# Altium integrated library Lattice iCE40.IntLib: 53 symbols (part 2 of 5)
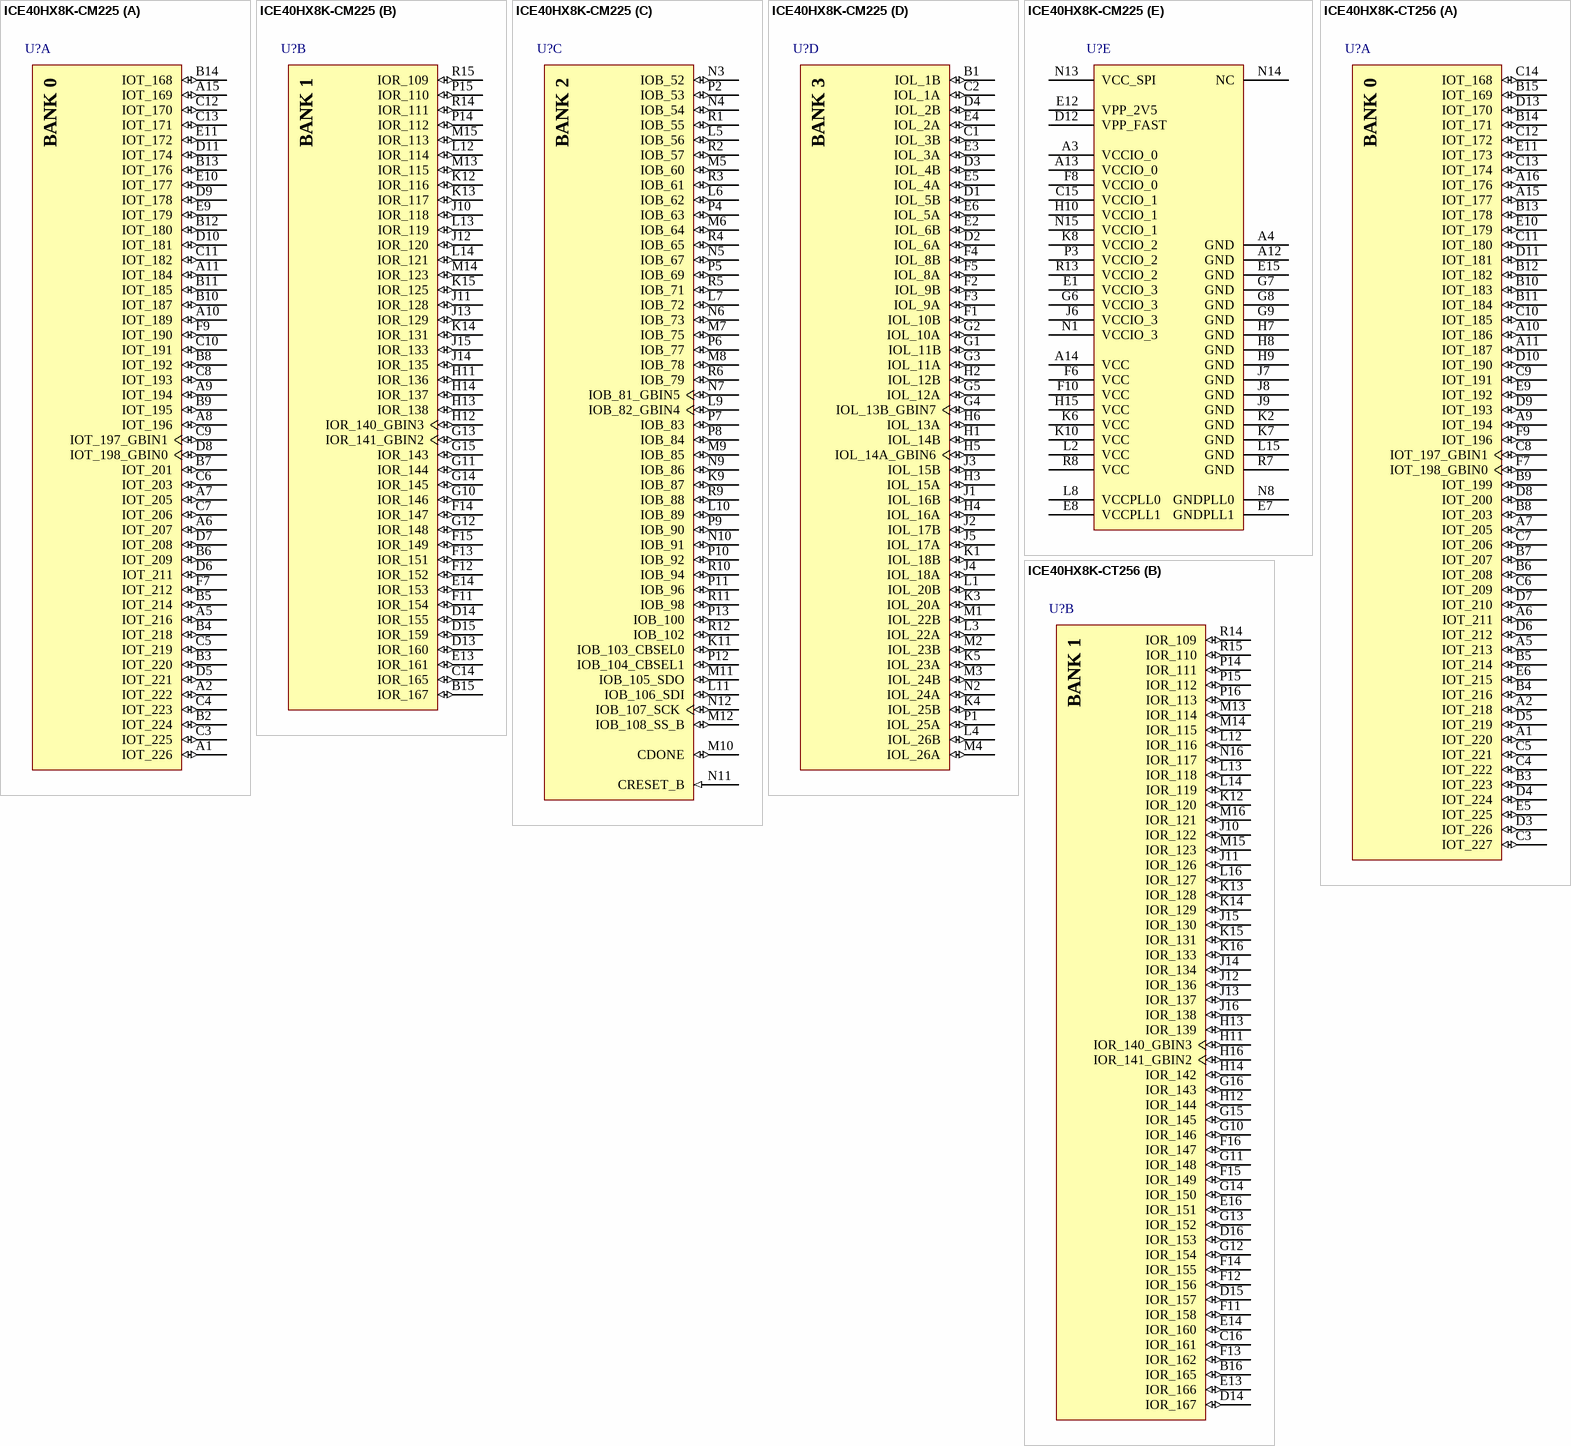
[diagram p12: symbols ICE40HX8K-CM225 to ICE40HX8K-CT256]

## ICE40HX8K-CM225
designator U?
iCE40 HX8K Series FPGA Family, 7680 Logic Cells, 1.2 V Core, 128 K Embedded RAM Bits, 225-ball ucBGA, Pb-Free, Tray; Manufacturer: Lattice Semiconductor; PartNumber: ICE40HX8K-CM225; Embedded RAM Bits: 128K; Logic Cells: 7680; Phase-Locked Loops: 2; Supply Voltage: 1.2V; DatasheetVersion: Rev. 02.9; PackageVersion: Rev. 03.9, 02/2013; PackageReference: ucBGA-225; PackageDescription: 225-Ball Ultra Chip Ball Grid Array, Body 7 x 7 mm, Pitch 0.4 mm; Supplier 1: Digi-Key; Supplier Part Number 1: 220-1576-ND; Supplier 2: Mouser; Supplier Part Number 2: 842-ICE40HX8K-CM225; Packing: Tray; RoHS: TRUE; Mounting Technology: Surface Mount; ComponentLink1Description: Manufacturer URL; ComponentLink1URL: http://www.latticesemi.com/en; ComponentLink2Description: Datasheet; ComponentLink2URL: http://www.latticesemi.com/~/media/Documents/DataSheets/iCE/iCE40LPHXFamilyDataSheet.pdf; ComponentLink3Description: Package Specification; ComponentLink3URL: http://www.latticesemi.com/lit/docs/package/pkg.pdf
footprint LATC-ucBGA-225 (BGA, 225-Balls, Body 7x7mm, Pitch 0.4mm)
part A pins: A1 IOT_226 (io), A2 IOT_222 (io), A5 IOT_216 (io), A6 IOT_207 (io), A7 IOT_205 (io), A8 IOT_196 (io), A9 IOT_194 (io), A10 IOT_189 (io), A11 IOT_184 (io), A15 IOT_169 (io), B2 IOT_224 (io), B3 IOT_220 (io), B4 IOT_218 (io), B5 IOT_214 (io), B6 IOT_209 (io), B7 IOT_201 (io), B8 IOT_192 (io), B9 IOT_195 (io), B10 IOT_187 (io), B11 IOT_185 (io), B12 IOT_180 (io), B13 IOT_176 (io), B14 IOT_168 (io), C3 IOT_225 (io), C4 IOT_223 (io), C5 IOT_219 (io), C6 IOT_203 (io), C7 IOT_206 (io), C8 IOT_193 (io), C9 IOT_197_GBIN1 (io), C10 IOT_191 (io), C11 IOT_182 (io), C12 IOT_170 (io), C13 IOT_171 (io), D5 IOT_221 (io), D6 IOT_211 (io), D7 IOT_208 (io), D8 IOT_198_GBIN0 (io), D9 IOT_178 (io), D10 IOT_181 (io), D11 IOT_174 (io), E9 IOT_179 (io), E10 IOT_177 (io), E11 IOT_172 (io), F7 IOT_212 (io), F9 IOT_190 (io)
part B pins: B15 IOR_167 (io), C14 IOR_165 (io), D13 IOR_160 (io), D14 IOR_155 (io), D15 IOR_159 (io), E13 IOR_161 (io), E14 IOR_153 (io), F11 IOR_154 (io), F12 IOR_152 (io), F13 IOR_151 (io), F14 IOR_147 (io), F15 IOR_149 (io), G10 IOR_146 (io), G11 IOR_144 (io), G12 IOR_148 (io), G13 IOR_141_GBIN2 (io), G14 IOR_145 (io), G15 IOR_143 (io), H11 IOR_136 (io), H12 IOR_140_GBIN3 (io), H13 IOR_138 (io), H14 IOR_137 (io), J10 IOR_118 (io), J11 IOR_128 (io), J12 IOR_120 (io), J13 IOR_129 (io), J14 IOR_135 (io), J15 IOR_133 (io), K12 IOR_116 (io), K13 IOR_117 (io), K14 IOR_131 (io), K15 IOR_125 (io), L12 IOR_114 (io), L13 IOR_119 (io), L14 IOR_121 (io), M13 IOR_115 (io), M14 IOR_123 (io), M15 IOR_113 (io), P14 IOR_112 (io), P15 IOR_110 (io), R14 IOR_111 (io), R15 IOR_109 (io)
part C pins: K9 IOB_87 (io), K11 IOB_103_CBSEL0 (io), L5 IOB_56 (io), L6 IOB_62 (io), L7 IOB_72 (io), L9 IOB_82_GBIN4 (io), L10 IOB_89 (io), L11 IOB_106_SDI (io), M5 IOB_60 (io), M6 IOB_64 (io), M7 IOB_75 (io), M8 IOB_78 (io), M9 IOB_85 (io), M10 CDONE (io) "Configuration Done. Includes a weak pull-up resistor to VCCIO_2.", M11 IOB_105_SDO (io), M12 IOB_108_SS_B (io), N3 IOB_52 (io), N4 IOB_54 (io), N5 IOB_67 (io), N6 IOB_73 (io), N7 IOB_81_GBIN5 (io), N9 IOB_86 (io), N10 IOB_91 (io), N11 CRESET_B (in) "Configuration Reset, active Low. Dedicated input. No internal pull-up resistor. Either actively drive externally or connect a 10 KOhm pull-up resistor to VCCIO_2.", N12 IOB_107_SCK (io), P2 IOB_53 (io), P4 IOB_63 (io), P5 IOB_69 (io), P6 IOB_77 (io), P7 IOB_83 (io), P8 IOB_84 (io), P9 IOB_90 (io), P10 IOB_92 (io), P11 IOB_96 (io), P12 IOB_104_CBSEL1 (io), P13 IOB_100 (io), R1 IOB_55 (io), R2 IOB_57 (io), R3 IOB_61 (io), R4 IOB_65 (io), R5 IOB_71 (io), R6 IOB_79 (io), R9 IOB_88 (io), R10 IOB_94 (io), R11 IOB_98 (io), R12 IOB_102 (io)
part D pins: B1 IOL_1B (io), C1 IOL_3B (io), C2 IOL_1A (io), D1 IOL_5B (io), D2 IOL_6A (io), D3 IOL_4B (io), D4 IOL_2B (io), E2 IOL_6B (io), E3 IOL_3A (io), E4 IOL_2A (io), E5 IOL_4A (io), E6 IOL_5A (io), F1 IOL_10B (io), F2 IOL_9B (io), F3 IOL_9A (io), F4 IOL_8B (io), F5 IOL_8A (io), G1 IOL_11B (io), G2 IOL_10A (io), G3 IOL_11A (io), G4 IOL_13B_GBIN7 (io), G5 IOL_12A (io), H1 IOL_14B (io), H2 IOL_12B (io), H3 IOL_15A (io), H4 IOL_16A (io), H5 IOL_14A_GBIN6 (io), H6 IOL_13A (io), J1 IOL_16B (io), J2 IOL_17B (io), J3 IOL_15B (io), J4 IOL_18A (io), J5 IOL_17A (io), K1 IOL_18B (io), K3 IOL_20A (io), K4 IOL_25B (io), K5 IOL_23A (io), L1 IOL_20B (io), L3 IOL_22A (io), L4 IOL_26B (io), M1 IOL_22B (io), M2 IOL_23B (io), M3 IOL_24B (io), M4 IOL_26A (io), N2 IOL_24A (io), P1 IOL_25A (io)
part E pins: A3 VCCIO_0 (power) "VCCIO - The power supply pins for I/O Bank 0. Dedicated pins. All VCCIOs located in the same bank are tied to the same supply.", A4 GND (power) "GND - Ground. Dedicated pins. It is recommended that all GNDs are tied together.", A12 GND (power) "GND - Ground. Dedicated pins. It is recommended that all GNDs are tied together.", A13 VCCIO_0 (power) "VCCIO - The power supply pins for I/O Bank 0. Dedicated pins. All VCCIOs located in the same bank are tied to the same supply.", A14 VCC (power) "VCC - The power supply pins for core logic. Dedicated pins. It is recommended that all VCCs are tied to the same supply.", C15 VCCIO_1 (power) "VCCIO - The power supply pins for I/O Bank 1. Dedicated pins. All VCCIOs located in the same bank are tied to the same supply.", D12 VPP_FAST (power) "Optional fast NVCM programming supply. VPP_FAST, used only for fast production programming, must be left floating or unconnected in applications, except CM36 and CM49 packages MUST have the VPP_FAST ball connected to VCCIO_0 (See Datasheet)", E1 VCCIO_3 (power) "VCCIO - The power supply pins for I/O Bank 3. Dedicated pins. All VCCIOs located in the same bank are tied to the same supply.", E7 GNDPLL1 (power) "PLL GND - Ground. Dedicated pins. The sysCLOCK PLL has the DC ground connection made on the FPGA, so the external PLL ground connection (GNDPLL) must NOT be connected to the board’s ground.", E8 VCCPLL1 (power) "PLL VCC - Power. Dedicated pins. The PLL requires a separate power and ground that is quiet and stable to reduce the output clock jitter of the PLL.", E12 VPP_2V5 (power) "VPP_2V5 NVCM programming and operating supply", E15 GND (power) "GND - Ground. Dedicated pins. It is recommended that all GNDs are tied together.", F6 VCC (power) "VCC - The power supply pins for core logic. Dedicated pins. It is recommended that all VCCs are tied to the same supply.", F8 VCCIO_0 (power) "VCCIO - The power supply pins for I/O Bank 0. Dedicated pins. All VCCIOs located in the same bank are tied to the same supply.", F10 VCC (power) "VCC - The power supply pins for core logic. Dedicated pins. It is recommended that all VCCs are tied to the same supply.", G6 VCCIO_3 (power) "VCCIO - The power supply pins for I/O Bank 3. Dedicated pins. All VCCIOs located in the same bank are tied to the same supply.", G7 GND (power) "GND - Ground. Dedicated pins. It is recommended that all GNDs are tied together.", G8 GND (power) "GND - Ground. Dedicated pins. It is recommended that all GNDs are tied together.", G9 GND (power) "GND - Ground. Dedicated pins. It is recommended that all GNDs are tied together.", H7 GND (power) "GND - Ground. Dedicated pins. It is recommended that all GNDs are tied together.", H8 GND (power) "GND - Ground. Dedicated pins. It is recommended that all GNDs are tied together.", H9 GND (power) "GND - Ground. Dedicated pins. It is recommended that all GNDs are tied together.", H10 VCCIO_1 (power) "VCCIO - The power supply pins for I/O Bank 1. Dedicated pins. All VCCIOs located in the same bank are tied to the same supply.", H15 VCC (power) "VCC - The power supply pins for core logic. Dedicated pins. It is recommended that all VCCs are tied to the same supply.", J6 VCCIO_3 (power) "VCCIO - The power supply pins for I/O Bank 3. Dedicated pins. All VCCIOs located in the same bank are tied to the same supply.", J7 GND (power) "GND - Ground. Dedicated pins. It is recommended that all GNDs are tied together.", J8 GND (power) "GND - Ground. Dedicated pins. It is recommended that all GNDs are tied together.", J9 GND (power) "GND - Ground. Dedicated pins. It is recommended that all GNDs are tied together.", K2 GND (power) "GND - Ground. Dedicated pins. It is recommended that all GNDs are tied together.", K6 VCC (power) "VCC - The power supply pins for core logic. Dedicated pins. It is recommended that all VCCs are tied to the same supply.", K7 GND (power) "GND - Ground. Dedicated pins. It is recommended that all GNDs are tied together.", K8 VCCIO_2 (power) "VCCIO - The power supply pins for I/O Bank 2. Dedicated pins. All VCCIOs located in the same bank are tied to the same supply.", K10 VCC (power) "VCC - The power supply pins for core logic. Dedicated pins. It is recommended that all VCCs are tied to the same supply.", L2 VCC (power) "VCC - The power supply pins for core logic. Dedicated pins. It is recommended that all VCCs are tied to the same supply.", L8 VCCPLL0 (power) "PLL VCC - Power. Dedicated pins. The PLL requires a separate power and ground that is quiet and stable to reduce the output clock jitter of the PLL.", L15 GND (power) "GND - Ground. Dedicated pins. It is recommended that all GNDs are tied together.", N1 VCCIO_3 (power) "VCCIO - The power supply pins for I/O Bank 3. Dedicated pins. All VCCIOs located in the same bank are tied to the same supply.", N8 GNDPLL0 (power) "PLL GND - Ground. Dedicated pins. The sysCLOCK PLL has the DC ground connection made on the FPGA, so the external PLL ground connection (GNDPLL) must NOT be connected to the board’s ground.", N13 VCC_SPI (power) "SPI interface voltage supply input. Must have a valid voltage even if configuring from NVCM.", N14 NC "No connect", N15 VCCIO_1 (power) "VCCIO - The power supply pins for I/O Bank 1. Dedicated pins. All VCCIOs located in the same bank are tied to the same supply.", P3 VCCIO_2 (power) "VCCIO - The power supply pins for I/O Bank 2. Dedicated pins. All VCCIOs located in the same bank are tied to the same supply.", R7 GND (power) "GND - Ground. Dedicated pins. It is recommended that all GNDs are tied together.", R8 VCC (power) "VCC - The power supply pins for core logic. Dedicated pins. It is recommended that all VCCs are tied to the same supply.", R13 VCCIO_2 (power) "VCCIO - The power supply pins for I/O Bank 2. Dedicated pins. All VCCIOs located in the same bank are tied to the same supply."
part A text: BANK 0
part B text: BANK 1
part C text: BANK 2
part D text: BANK 3

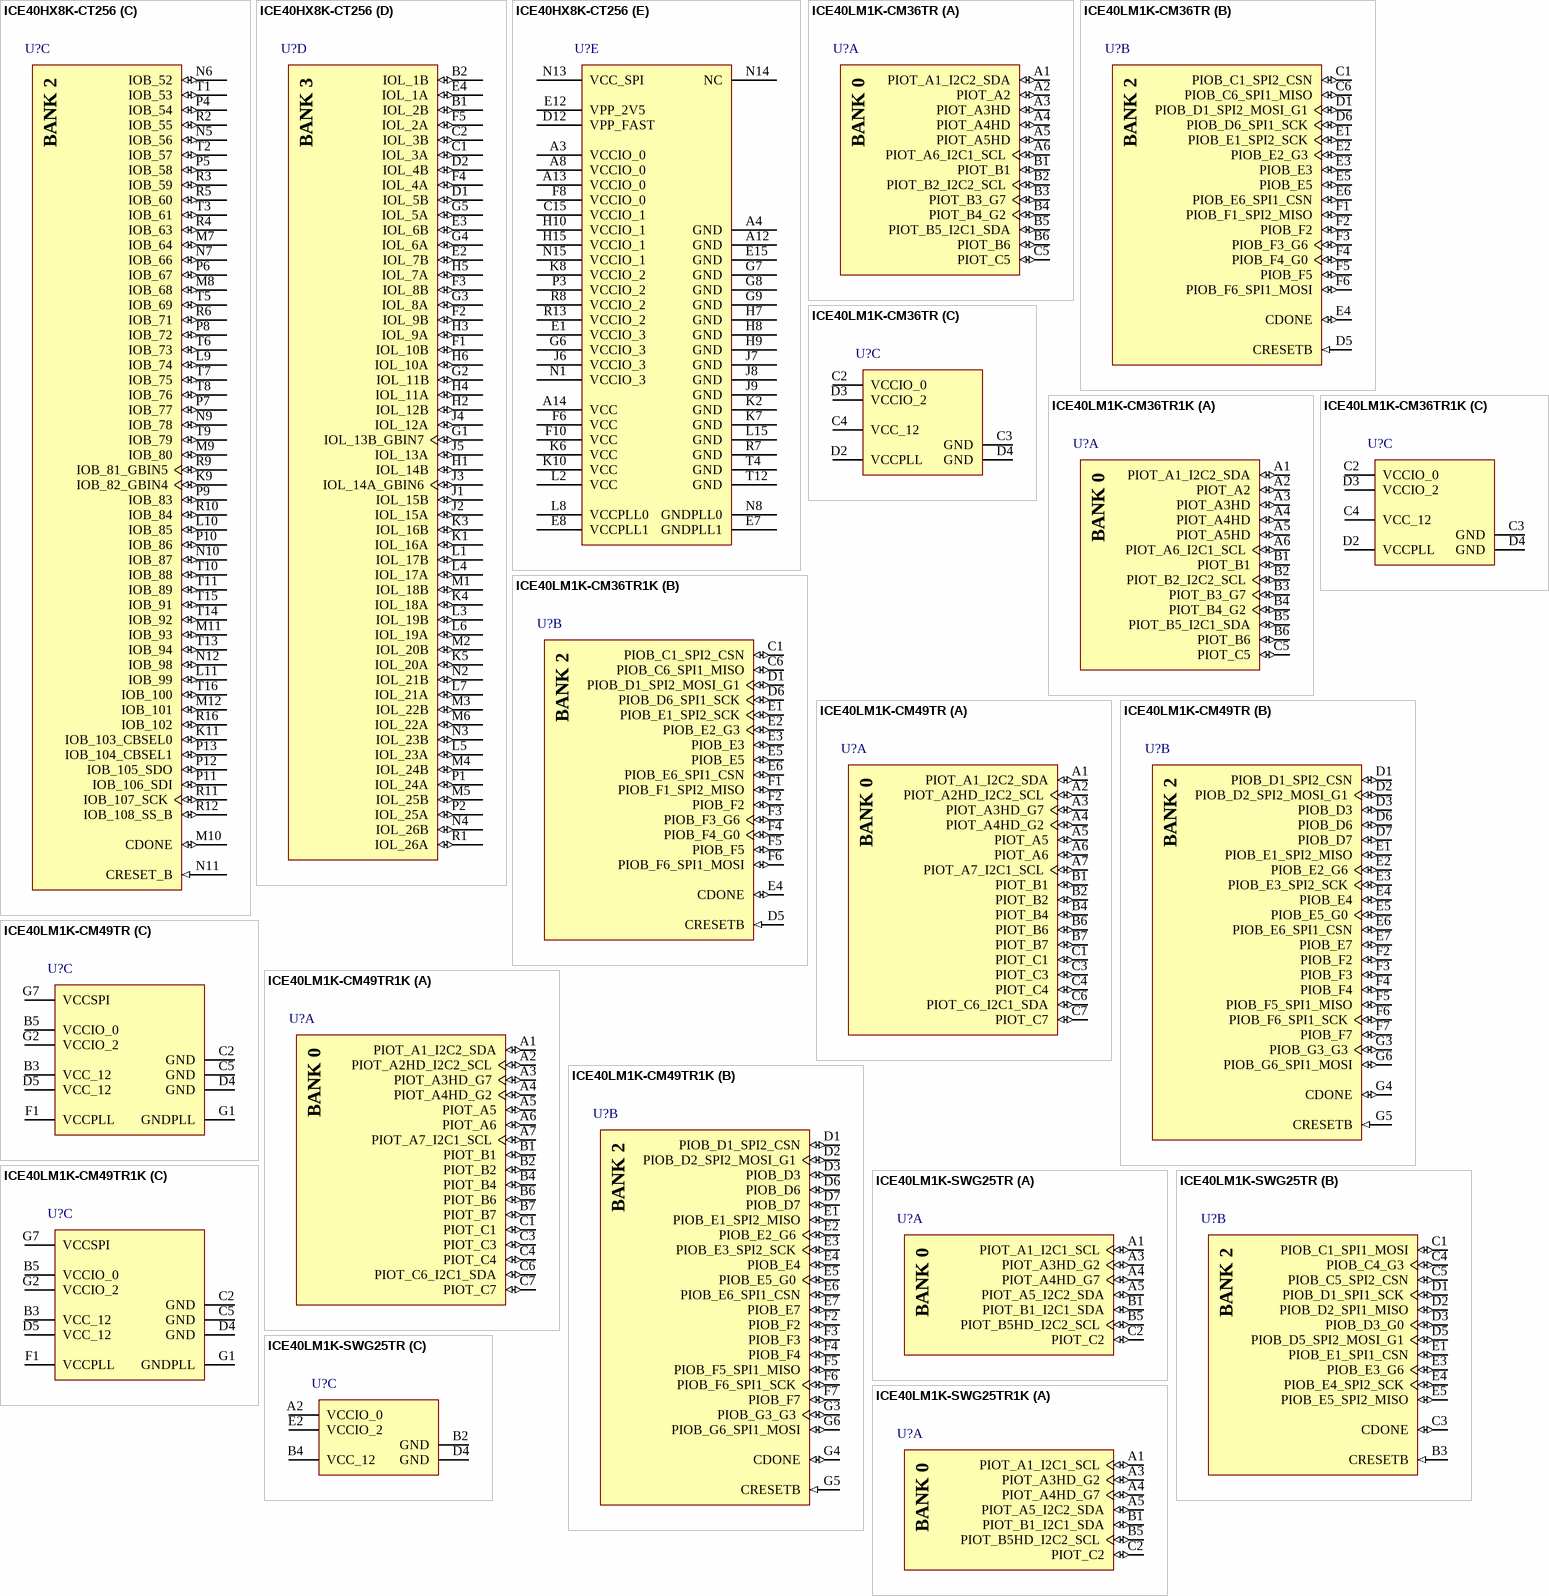
[diagram p3: symbols ICE40HX8K-CT256 to ICE40LM1K-SWG25TR1K]

## ICE40HX8K-CT256
designator U?
iCE40 HX8K Series FPGA Family, 7680 Logic Cells, 1.2 V Core, 128 K Embedded RAM Bits, 256-ball caBGA, Pb-Free, Tray; Manufacturer: Lattice Semiconductor; PartNumber: ICE40HX8K-CT256; Embedded RAM Bits: 128K; Logic Cells: 7680; Phase-Locked Loops: 2; Supply Voltage: 1.2V; DatasheetVersion: Rev. 02.9; PackageVersion: Rev. 03.9, 02/2013; PackageReference: caBGA-256; PackageDescription: 256-Ball Chip Array Ball Grid Array, Body 14 x 14 mm, Pitch 0.8 mm; Supplier 1: Digi-Key; Supplier Part Number 1: 220-1575-ND; Supplier 2: Mouser; Supplier Part Number 2: 842-ICE40HX8K-CT256; Packing: Tray; RoHS: TRUE; Mounting Technology: Surface Mount; Code_JEDEC: MO-275; ComponentLink1Description: Manufacturer URL; ComponentLink1URL: http://www.latticesemi.com/en; ComponentLink2Description: Datasheet; ComponentLink2URL: http://www.latticesemi.com/~/media/Documents/DataSheets/iCE/iCE40LPHXFamilyDataSheet.pdf; ComponentLink3Description: Package Specification; ComponentLink3URL: http://www.latticesemi.com/lit/docs/package/pkg.pdf
footprint LATC-caBGA-256 (BGA, 256-Balls, Body 14x14mm, Pitch 0.8mm)
part A pins: A1 IOT_220 (io), A2 IOT_218 (io), A5 IOT_213 (io), A6 IOT_211 (io), A7 IOT_205 (io), A9 IOT_194 (io), A10 IOT_186 (io), A11 IOT_187 (io), A15 IOT_177 (io), A16 IOT_176 (io), B3 IOT_223 (io), B4 IOT_216 (io), B5 IOT_214 (io), B6 IOT_208 (io), B7 IOT_207 (io), B8 IOT_203 (io), B9 IOT_199 (io), B10 IOT_183 (io), B11 IOT_184 (io), B12 IOT_182 (io), B13 IOT_178 (io), B14 IOT_171 (io), B15 IOT_169 (io), C3 IOT_227 (io), C4 IOT_222 (io), C5 IOT_221 (io), C6 IOT_209 (io), C7 IOT_206 (io), C8 IOT_197_GBIN1 (io), C9 IOT_191 (io), C10 IOT_185 (io), C11 IOT_180 (io), C12 IOT_172 (io), C13 IOT_174 (io), C14 IOT_168 (io), D3 IOT_226 (io), D4 IOT_224 (io), D5 IOT_219 (io), D6 IOT_212 (io), D7 IOT_210 (io), D8 IOT_200 (io), D9 IOT_193 (io), D10 IOT_190 (io), D11 IOT_181 (io), D13 IOT_170 (io), E5 IOT_225 (io), E6 IOT_215 (io), E9 IOT_192 (io), E10 IOT_179 (io), E11 IOT_173 (io), F7 IOT_198_GBIN0 (io), F9 IOT_196 (io)
part B pins: B16 IOR_165 (io), C16 IOR_161 (io), D14 IOR_167 (io), D15 IOR_157 (io), D16 IOR_153 (io), E13 IOR_166 (io), E14 IOR_160 (io), E16 IOR_151 (io), F11 IOR_158 (io), F12 IOR_156 (io), F13 IOR_162 (io), F14 IOR_155 (io), F15 IOR_149 (io), F16 IOR_147 (io), G10 IOR_146 (io), G11 IOR_148 (io), G12 IOR_154 (io), G13 IOR_152 (io), G14 IOR_150 (io), G15 IOR_145 (io), G16 IOR_143 (io), H11 IOR_140_GBIN3 (io), H12 IOR_144 (io), H13 IOR_139 (io), H14 IOR_142 (io), H16 IOR_141_GBIN2 (io), J10 IOR_122 (io), J11 IOR_126 (io), J12 IOR_136 (io), J13 IOR_137 (io), J14 IOR_134 (io), J15 IOR_130 (io), J16 IOR_138 (io), K12 IOR_120 (io), K13 IOR_128 (io), K14 IOR_129 (io), K15 IOR_131 (io), K16 IOR_133 (io), L12 IOR_116 (io), L13 IOR_118 (io), L14 IOR_119 (io), L16 IOR_127 (io), M13 IOR_114 (io), M14 IOR_115 (io), M15 IOR_123 (io), M16 IOR_121 (io), N16 IOR_117 (io), P14 IOR_111 (io), P15 IOR_112 (io), P16 IOR_113 (io), R14 IOR_109 (io), R15 IOR_110 (io)
part C pins: K9 IOB_82_GBIN4 (io), K11 IOB_103_CBSEL0 (io), L9 IOB_74 (io), L10 IOB_85 (io), L11 IOB_99 (io), M7 IOB_64 (io), M8 IOB_68 (io), M9 IOB_80 (io), M10 CDONE (io) "Configuration Done. Includes a permanent weak pull-up resistor to VCCIO_2. If driving external devices with CDONE output, an external pull-up resistor to VCCIO_2 may be required. Refer to the TN1248, iCE40 Programming and (See Datasheet)", M11 IOB_93 (io), M12 IOB_101 (io), N5 IOB_56 (io), N6 IOB_52 (io), N7 IOB_66 (io), N9 IOB_78 (io), N10 IOB_87 (io), N11 CRESET_B (in) "Configuration Reset, active Low. Dedicated input. No internal pull-up resistor. Either actively drive externally or connect a 10 KOhm pull-up resistor to VCCIO_2.", N12 IOB_98 (io), P4 IOB_54 (io), P5 IOB_58 (io), P6 IOB_67 (io), P7 IOB_77 (io), P8 IOB_72 (io), P9 IOB_83 (io), P10 IOB_86 (io), P11 IOB_106_SDI (io), P12 IOB_105_SDO (io), P13 IOB_104_CBSEL1 (io), R2 IOB_55 (io), R3 IOB_59 (io), R4 IOB_63 (io), R5 IOB_60 (io), R6 IOB_71 (io), R9 IOB_81_GBIN5 (io), R10 IOB_84 (io), R11 IOB_107_SCK (io), R12 IOB_108_SS_B (io), R16 IOB_102 (io), T1 IOB_53 (io), T2 IOB_57 (io), T3 IOB_61 (io), T5 IOB_69 (io), T6 IOB_73 (io), T7 IOB_75 (io), T8 IOB_76 (io), T9 IOB_79 (io), T10 IOB_88 (io), T11 IOB_89 (io), T13 IOB_94 (io), T14 IOB_92 (io), T15 IOB_91 (io), T16 IOB_100 (io)
part D pins: B1 IOL_2B (io), B2 IOL_1B (io), C1 IOL_3A (io), C2 IOL_3B (io), D1 IOL_5B (io), D2 IOL_4B (io), E2 IOL_7B (io), E3 IOL_6B (io), E4 IOL_1A (io), F1 IOL_10B (io), F2 IOL_9B (io), F3 IOL_8B (io), F4 IOL_4A (io), F5 IOL_2A (io), G1 IOL_13B_GBIN7 (io), G2 IOL_11B (io), G3 IOL_8A (io), G4 IOL_6A (io), G5 IOL_5A (io), H1 IOL_14B (io), H2 IOL_12B (io), H3 IOL_9A (io), H4 IOL_11A (io), H5 IOL_7A (io), H6 IOL_10A (io), J1 IOL_15B (io), J2 IOL_15A (io), J3 IOL_14A_GBIN6 (io), J4 IOL_12A (io), J5 IOL_13A (io), K1 IOL_16A (io), K3 IOL_16B (io), K4 IOL_18A (io), K5 IOL_20A (io), L1 IOL_17B (io), L3 IOL_19B (io), L4 IOL_17A (io), L5 IOL_23A (io), L6 IOL_19A (io), L7 IOL_21A (io), M1 IOL_18B (io), M2 IOL_20B (io), M3 IOL_22B (io), M4 IOL_24B (io), M5 IOL_25B (io), M6 IOL_22A (io), N2 IOL_21B (io), N3 IOL_23B (io), N4 IOL_26B (io), P1 IOL_24A (io), P2 IOL_25A (io), R1 IOL_26A (io)
part E pins: A3 VCCIO_0 (power) "VCCIO - The power supply pins for I/O Bank 0. Dedicated pins. All VCCIOs located in the same bank are tied to the same supply.", A4 GND (power) "GND - Ground. Dedicated pins. It is recommended that all GNDs are tied together.", A8 VCCIO_0 (power) "VCCIO - The power supply pins for I/O Bank 0. Dedicated pins. All VCCIOs located in the same bank are tied to the same supply.", A12 GND (power) "GND - Ground. Dedicated pins. It is recommended that all GNDs are tied together.", A13 VCCIO_0 (power) "VCCIO - The power supply pins for I/O Bank 0. Dedicated pins. All VCCIOs located in the same bank are tied to the same supply.", A14 VCC (power) "VCC - The power supply pins for core logic. Dedicated pins. It is recommended that all VCCs are tied to the same supply.", C15 VCCIO_1 (power) "VCCIO - The power supply pins for I/O Bank 1. Dedicated pins. All VCCIOs located in the same bank are tied to the same supply.", D12 VPP_FAST (power) "Optional fast NVCM programming supply. VPP_FAST, used only for fast production programming, must be left floating or unconnected in applications, except CM36 and CM49 packages MUST have the VPP_FAST ball connected to VCCIO_0 (See Datasheet)", E1 VCCIO_3 (power) "VCCIO - The power supply pins for I/O Bank 3. Dedicated pins. All VCCIOs located in the same bank are tied to the same supply.", E7 GNDPLL1 (power) "PLL GND - Ground. Dedicated pins. The sysCLOCK PLL has the DC ground connection made on the FPGA, so the external PLL ground connection (GNDPLL) must NOT be connected to the board’s ground.", E8 VCCPLL1 (power) "PLL VCC - Power. Dedicated pins. The PLL requires a separate power and ground that is quiet and stable to reduce the output clock jitter of the PLL.", E12 VPP_2V5 (power) "VPP_2V5 NVCM programming and operating supply", E15 GND (power) "GND - Ground. Dedicated pins. It is recommended that all GNDs are tied together.", F6 VCC (power) "VCC - The power supply pins for core logic. Dedicated pins. It is recommended that all VCCs are tied to the same supply.", F8 VCCIO_0 (power) "VCCIO - The power supply pins for I/O Bank 0. Dedicated pins. All VCCIOs located in the same bank are tied to the same supply.", F10 VCC (power) "VCC - The power supply pins for core logic. Dedicated pins. It is recommended that all VCCs are tied to the same supply.", G6 VCCIO_3 (power) "VCCIO - The power supply pins for I/O Bank 3. Dedicated pins. All VCCIOs located in the same bank are tied to the same supply.", G7 GND (power) "GND - Ground. Dedicated pins. It is recommended that all GNDs are tied together.", G8 GND (power) "GND - Ground. Dedicated pins. It is recommended that all GNDs are tied together.", G9 GND (power) "GND - Ground. Dedicated pins. It is recommended that all GNDs are tied together.", H7 GND (power) "GND - Ground. Dedicated pins. It is recommended that all GNDs are tied together.", H8 GND (power) "GND - Ground. Dedicated pins. It is recommended that all GNDs are tied together.", H9 GND (power) "GND - Ground. Dedicated pins. It is recommended that all GNDs are tied together.", H10 VCCIO_1 (power) "VCCIO - The power supply pins for I/O Bank 1. Dedicated pins. All VCCIOs located in the same bank are tied to the same supply.", H15 VCCIO_1 (power) "VCCIO - The power supply pins for I/O Bank 1. Dedicated pins. All VCCIOs located in the same bank are tied to the same supply.", J6 VCCIO_3 (power) "VCCIO - The power supply pins for I/O Bank 3. Dedicated pins. All VCCIOs located in the same bank are tied to the same supply.", J7 GND (power) "GND - Ground. Dedicated pins. It is recommended that all GNDs are tied together.", J8 GND (power) "GND - Ground. Dedicated pins. It is recommended that all GNDs are tied together.", J9 GND (power) "GND - Ground. Dedicated pins. It is recommended that all GNDs are tied together.", K2 GND (power) "GND - Ground. Dedicated pins. It is recommended that all GNDs are tied together.", K6 VCC (power) "VCC - The power supply pins for core logic. Dedicated pins. It is recommended that all VCCs are tied to the same supply.", K7 GND (power) "GND - Ground. Dedicated pins. It is recommended that all GNDs are tied together.", K8 VCCIO_2 (power) "VCCIO - The power supply pins for I/O Bank 2. Dedicated pins. All VCCIOs located in the same bank are tied to the same supply.", K10 VCC (power) "VCC - The power supply pins for core logic. Dedicated pins. It is recommended that all VCCs are tied to the same supply.", L2 VCC (power) "VCC - The power supply pins for core logic. Dedicated pins. It is recommended that all VCCs are tied to the same supply.", L8 VCCPLL0 (power) "PLL VCC - Power. Dedicated pins. The PLL requires a separate power and ground that is quiet and stable to reduce the output clock jitter of the PLL.", L15 GND (power) "GND - Ground. Dedicated pins. It is recommended that all GNDs are tied together.", N1 VCCIO_3 (power) "VCCIO - The power supply pins for I/O Bank 3. Dedicated pins. All VCCIOs located in the same bank are tied to the same supply.", N8 GNDPLL0 (power) "PLL GND - Ground. Dedicated pins. The sysCLOCK PLL has the DC ground connection made on the FPGA, so the external PLL ground connection (GNDPLL) must NOT be connected to the board’s ground.", N13 VCC_SPI (power) "SPI interface voltage supply input. Must have a valid voltage even if configuring from NVCM.", N14 NC "No connect", N15 VCCIO_1 (power) "VCCIO - The power supply pins for I/O Bank 1. Dedicated pins. All VCCIOs located in the same bank are tied to the same supply.", P3 VCCIO_2 (power) "VCCIO - The power supply pins for I/O Bank 2. Dedicated pins. All VCCIOs located in the same bank are tied to the same supply.", R7 GND (power) "GND - Ground. Dedicated pins. It is recommended that all GNDs are tied together.", R8 VCCIO_2 (power) "VCCIO - The power supply pins for I/O Bank 2. Dedicated pins. All VCCIOs located in the same bank are tied to the same supply.", R13 VCCIO_2 (power) "VCCIO - The power supply pins for I/O Bank 2. Dedicated pins. All VCCIOs located in the same bank are tied to the same supply.", T4 GND (power) "GND - Ground. Dedicated pins. It is recommended that all GNDs are tied together.", T12 GND (power) "GND - Ground. Dedicated pins. It is recommended that all GNDs are tied together."
part A text: BANK 0
part B text: BANK 1
part C text: BANK 2
part D text: BANK 3

## ICE40LM1K-CM36TR
designator U?
iCE40 LM1K Series FPGA Family, 1100 Logic Cells, 1.2 V Core, 64 K Embedded RAM Bits, 36-ball ucBGA, Pb-Free, Tape and Reel; Manufacturer: Lattice Semiconductor; PartNumber: ICE40LM1K-CM36TR; 24mA Current Sink: 3; Embedded RAM Bits: 64K; High Frequency Strobe Generators: 1; I2C Cores: 2; Logic Cells: 1100; Supply Voltage: 1.2V; DatasheetVersion: Rev. 1.3; PackageVersion: Rev. 03.9, 02/2013; PackageReference: ucBGA-36; PackageDescription: 36-Ball Ultra Chip Ball Grid Array, Body 2.5 x 2.5 mm, Pitch 0.4 mm; Low Power Strobe Generators: 1; Packing: Tape and Reel; Phase-Locked Loops: 1; RoHS: TRUE; SPI Cores: 2; Mounting Technology: Surface Mount; ComponentLink1Description: Manufacturer URL; ComponentLink1URL: http://www.latticesemi.com/en; ComponentLink2Description: Datasheet; ComponentLink2URL: http://www.latticesemi.com/~/media/Documents/DataSheets/iCE/DS1045.pdf; ComponentLink3Description: Package Specification; ComponentLink3URL: http://www.latticesemi.com/lit/docs/package/pkg.pdf
footprint LATC-ucBGA-36 (ucBGA, 36-Balls, Body 2.5x2.5mm, Pitch 0.4mm)
part A pins: A1 PIOT_A1_I2C2_SDA (io), A2 PIOT_A2 (io), A3 PIOT_A3HD (io), A4 PIOT_A4HD (io), A5 PIOT_A5HD (io), A6 PIOT_A6_I2C1_SCL (io), B1 PIOT_B1 (io), B2 PIOT_B2_I2C2_SCL (io), B3 PIOT_B3_G7 (io), B4 PIOT_B4_G2 (io), B5 PIOT_B5_I2C1_SDA (io), B6 PIOT_B6 (io), C5 PIOT_C5 (io)
part B pins: C1 PIOB_C1_SPI2_CSN (io), C6 PIOB_C6_SPI1_MISO (io), D1 PIOB_D1_SPI2_MOSI_G1 (io), D5 CRESETB (in) "Configuration Reset, active LOW. No internal pull-up resistor. Either actively driven externally or connect an 10K-ohm pull-up resistor to VCCIO_2.", D6 PIOB_D6_SPI1_SCK (io), E1 PIOB_E1_SPI2_SCK (io), E2 PIOB_E2_G3 (io), E3 PIOB_E3 (io), E4 CDONE (io) "Configuration Done. Includes a weak pull-up resistor to VCCIO_2.", E5 PIOB_E5 (io), E6 PIOB_E6_SPI1_CSN (io), F1 PIOB_F1_SPI2_MISO (io), F2 PIOB_F2 (io), F3 PIOB_F3_G6 (io), F4 PIOB_F4_G0 (io), F5 PIOB_F5 (io), F6 PIOB_F6_SPI1_MOSI (io)
part C pins: C2 VCCIO_0 (power) "Power Supply for I/Os in Bank 0", C3 GND (power) "Ground", C4 VCC_12 (power), D2 VCCPLL (power) "Power supply for PLL.", D3 VCCIO_2 (power) "Power Supply for I/Os in Bank 2", D4 GND (power) "Ground"
part A text: BANK 0
part B text: BANK 2

## ICE40LM1K-CM36TR1K
designator U?
iCE40 LM1K Series FPGA Family, 1100 Logic Cells, 1.2 V Core, 64 K Embedded RAM Bits, 36-ball ucBGA, Pb-Free, Tape and Reel; Manufacturer: Lattice Semiconductor; PartNumber: ICE40LM1K-CM36TR1K; 24mA Current Sink: 3; Embedded RAM Bits: 64K; High Frequency Strobe Generators: 1; I2C Cores: 2; Logic Cells: 1100; Supply Voltage: 1.2V; DatasheetVersion: Rev. 1.3; PackageVersion: Rev. 03.9, 02/2013; PackageReference: ucBGA-36; PackageDescription: 36-Ball Ultra Chip Ball Grid Array, Body 2.5 x 2.5 mm, Pitch 0.4 mm; Low Power Strobe Generators: 1; Packing: Tape and Reel; Phase-Locked Loops: 1; RoHS: TRUE; SPI Cores: 2; Mounting Technology: Surface Mount; ComponentLink1Description: Manufacturer URL; ComponentLink1URL: http://www.latticesemi.com/en; ComponentLink2Description: Datasheet; ComponentLink2URL: http://www.latticesemi.com/~/media/Documents/DataSheets/iCE/DS1045.pdf; ComponentLink3Description: Package Specification; ComponentLink3URL: http://www.latticesemi.com/lit/docs/package/pkg.pdf
footprint LATC-ucBGA-36 (ucBGA, 36-Balls, Body 2.5x2.5mm, Pitch 0.4mm)
part A pins: A1 PIOT_A1_I2C2_SDA (io), A2 PIOT_A2 (io), A3 PIOT_A3HD (io), A4 PIOT_A4HD (io), A5 PIOT_A5HD (io), A6 PIOT_A6_I2C1_SCL (io), B1 PIOT_B1 (io), B2 PIOT_B2_I2C2_SCL (io), B3 PIOT_B3_G7 (io), B4 PIOT_B4_G2 (io), B5 PIOT_B5_I2C1_SDA (io), B6 PIOT_B6 (io), C5 PIOT_C5 (io)
part B pins: C1 PIOB_C1_SPI2_CSN (io), C6 PIOB_C6_SPI1_MISO (io), D1 PIOB_D1_SPI2_MOSI_G1 (io), D5 CRESETB (in) "Configuration Reset, active LOW. No internal pull-up resistor. Either actively driven externally or connect an 10K-ohm pull-up resistor to VCCIO_2.", D6 PIOB_D6_SPI1_SCK (io), E1 PIOB_E1_SPI2_SCK (io), E2 PIOB_E2_G3 (io), E3 PIOB_E3 (io), E4 CDONE (io) "Configuration Done. Includes a weak pull-up resistor to VCCIO_2.", E5 PIOB_E5 (io), E6 PIOB_E6_SPI1_CSN (io), F1 PIOB_F1_SPI2_MISO (io), F2 PIOB_F2 (io), F3 PIOB_F3_G6 (io), F4 PIOB_F4_G0 (io), F5 PIOB_F5 (io), F6 PIOB_F6_SPI1_MOSI (io)
part C pins: C2 VCCIO_0 (power) "Power Supply for I/Os in Bank 0", C3 GND (power) "Ground", C4 VCC_12 (power), D2 VCCPLL (power) "Power supply for PLL.", D3 VCCIO_2 (power) "Power Supply for I/Os in Bank 2", D4 GND (power) "Ground"
part A text: BANK 0
part B text: BANK 2

## ICE40LM1K-CM49TR
designator U?
iCE40 LM1K Series FPGA Family, 1100 Logic Cells, 1.2 V Core, 64 K Embedded RAM Bits, 49-ball ucBGA, Pb-Free, Tape and Reel; Manufacturer: Lattice Semiconductor; PartNumber: ICE40LM1K-CM49TR; 24mA Current Sink: 3; Embedded RAM Bits: 64K; High Frequency Strobe Generators: 1; I2C Cores: 2; Logic Cells: 1100; Supply Voltage: 1.2V; DatasheetVersion: Rev. 1.3; PackageVersion: Rev. 03.9, 02/2013; PackageReference: ucBGA-49; PackageDescription: 49-Ball Ultra Chip Ball Grid Array, Body 3 x 3 mm, Pitch 0.4 mm; Low Power Strobe Generators: 1; Packing: Tape and Reel; Phase-Locked Loops: 1; RoHS: TRUE; SPI Cores: 2; Mounting Technology: Surface Mount; ComponentLink1Description: Manufacturer URL; ComponentLink1URL: http://www.latticesemi.com/en; ComponentLink2Description: Datasheet; ComponentLink2URL: http://www.latticesemi.com/~/media/Documents/DataSheets/iCE/DS1045.pdf; ComponentLink3Description: Package Specification; ComponentLink3URL: http://www.latticesemi.com/lit/docs/package/pkg.pdf
footprint LATC-ucBGA-49 (BGA, 49-Balls, Body 3x3mm, Pitch 0.4mm)
part A pins: A1 PIOT_A1_I2C2_SDA (io), A2 PIOT_A2HD_I2C2_SCL (io), A3 PIOT_A3HD_G7 (io), A4 PIOT_A4HD_G2 (io), A5 PIOT_A5 (io), A6 PIOT_A6 (io), A7 PIOT_A7_I2C1_SCL (io), B1 PIOT_B1 (io), B2 PIOT_B2 (io), B4 PIOT_B4 (io), B6 PIOT_B6 (io), B7 PIOT_B7 (io), C1 PIOT_C1 (io), C3 PIOT_C3 (io), C4 PIOT_C4 (io), C6 PIOT_C6_I2C1_SDA (io), C7 PIOT_C7 (io)
part B pins: D1 PIOB_D1_SPI2_CSN (io), D2 PIOB_D2_SPI2_MOSI_G1 (io), D3 PIOB_D3 (io), D6 PIOB_D6 (io), D7 PIOB_D7 (io), E1 PIOB_E1_SPI2_MISO (io), E2 PIOB_E2_G6 (io), E3 PIOB_E3_SPI2_SCK (io), E4 PIOB_E4 (io), E5 PIOB_E5_G0 (io), E6 PIOB_E6_SPI1_CSN (io), E7 PIOB_E7 (io), F2 PIOB_F2 (io), F3 PIOB_F3 (io), F4 PIOB_F4 (io), F5 PIOB_F5_SPI1_MISO (io), F6 PIOB_F6_SPI1_SCK (io), F7 PIOB_F7 (io), G3 PIOB_G3_G3 (io), G4 CDONE (io) "Configuration Done. Includes a weak pull-up resistor to VCCIO_2.", G5 CRESETB (in) "Configuration Reset, active LOW. No internal pull-up resistor. Either actively driven externally or connect an 10K-ohm pull-up resistor to VCCIO_2.", G6 PIOB_G6_SPI1_MOSI (io)
part C pins: B3 VCC_12 (power), B5 VCCIO_0 (power) "Power Supply for I/Os in Bank 0", C2 GND (power) "Ground", C5 GND (power) "Ground", D4 GND (power) "Ground", D5 VCC_12 (power), F1 VCCPLL (power) "Power supply for PLL.", G1 GNDPLL (power) "Ground", G2 VCCIO_2 (power) "Power Supply for I/Os in Bank 2", G7 VCCSPI (power) "Power supply for SPI1 ports."
part A text: BANK 0
part B text: BANK 2

## ICE40LM1K-CM49TR1K
designator U?
iCE40 LM1K Series FPGA Family, 1100 Logic Cells, 1.2 V Core, 64 K Embedded RAM Bits, 49-ball ucBGA, Pb-Free, Tape and Reel; Manufacturer: Lattice Semiconductor; PartNumber: ICE40LM1K-CM49TR1K; 24mA Current Sink: 3; Embedded RAM Bits: 64K; High Frequency Strobe Generators: 1; I2C Cores: 2; Logic Cells: 1100; Supply Voltage: 1.2V; DatasheetVersion: Rev. 1.3; PackageVersion: Rev. 03.9, 02/2013; PackageReference: ucBGA-49; PackageDescription: 49-Ball Ultra Chip Ball Grid Array, Body 3 x 3 mm, Pitch 0.4 mm; Low Power Strobe Generators: 1; Packing: Tape and Reel; Phase-Locked Loops: 1; RoHS: TRUE; SPI Cores: 2; Mounting Technology: Surface Mount; ComponentLink1Description: Manufacturer URL; ComponentLink1URL: http://www.latticesemi.com/en; ComponentLink2Description: Datasheet; ComponentLink2URL: http://www.latticesemi.com/~/media/Documents/DataSheets/iCE/DS1045.pdf; ComponentLink3Description: Package Specification; ComponentLink3URL: http://www.latticesemi.com/lit/docs/package/pkg.pdf
footprint LATC-ucBGA-49 (BGA, 49-Balls, Body 3x3mm, Pitch 0.4mm)
part A pins: A1 PIOT_A1_I2C2_SDA (io), A2 PIOT_A2HD_I2C2_SCL (io), A3 PIOT_A3HD_G7 (io), A4 PIOT_A4HD_G2 (io), A5 PIOT_A5 (io), A6 PIOT_A6 (io), A7 PIOT_A7_I2C1_SCL (io), B1 PIOT_B1 (io), B2 PIOT_B2 (io), B4 PIOT_B4 (io), B6 PIOT_B6 (io), B7 PIOT_B7 (io), C1 PIOT_C1 (io), C3 PIOT_C3 (io), C4 PIOT_C4 (io), C6 PIOT_C6_I2C1_SDA (io), C7 PIOT_C7 (io)
part B pins: D1 PIOB_D1_SPI2_CSN (io), D2 PIOB_D2_SPI2_MOSI_G1 (io), D3 PIOB_D3 (io), D6 PIOB_D6 (io), D7 PIOB_D7 (io), E1 PIOB_E1_SPI2_MISO (io), E2 PIOB_E2_G6 (io), E3 PIOB_E3_SPI2_SCK (io), E4 PIOB_E4 (io), E5 PIOB_E5_G0 (io), E6 PIOB_E6_SPI1_CSN (io), E7 PIOB_E7 (io), F2 PIOB_F2 (io), F3 PIOB_F3 (io), F4 PIOB_F4 (io), F5 PIOB_F5_SPI1_MISO (io), F6 PIOB_F6_SPI1_SCK (io), F7 PIOB_F7 (io), G3 PIOB_G3_G3 (io), G4 CDONE (io) "Configuration Done. Includes a weak pull-up resistor to VCCIO_2.", G5 CRESETB (in) "Configuration Reset, active LOW. No internal pull-up resistor. Either actively driven externally or connect an 10K-ohm pull-up resistor to VCCIO_2.", G6 PIOB_G6_SPI1_MOSI (io)
part C pins: B3 VCC_12 (power), B5 VCCIO_0 (power) "Power Supply for I/Os in Bank 0", C2 GND (power) "Ground", C5 GND (power) "Ground", D4 GND (power) "Ground", D5 VCC_12 (power), F1 VCCPLL (power) "Power supply for PLL.", G1 GNDPLL (power) "Ground", G2 VCCIO_2 (power) "Power Supply for I/Os in Bank 2", G7 VCCSPI (power) "Power supply for SPI1 ports."
part A text: BANK 0
part B text: BANK 2

## ICE40LM1K-SWG25TR
designator U?
iCE40 LM1K Series FPGA Family, 1100 Logic Cells, 1.2 V Core, 64 K Embedded RAM Bits, 25-ball WLCSP, Pb-Free, Tape and Reel; Manufacturer: Lattice Semiconductor; PartNumber: ICE40LM1K-SWG25TR; 24mA Current Sink: 3; Embedded RAM Bits: 64K; High Frequency Strobe Generators: 1; I2C Cores: 2; Logic Cells: 1100; Supply Voltage: 1.2V; DatasheetVersion: Rev. 1.3; PackageVersion: Rev. 03.9, 02/2013; PackageReference: WLCSP-25; PackageDescription: 25-Ball Wafer-Level Chip Scale Package, Body 1.71 x 1.71 mm, Pitch 0.35 mm; Supplier 1: Digi-Key; Supplier Part Number 1: ICE40LM1K-SWG25TR-ND; Supplier 2: Mouser; Supplier Part Number 2: 842-ICE40LM1KSWG25TR; Low Power Strobe Generators: 1; Packing: Tape and Reel; Phase-Locked Loops: 1; RoHS: TRUE; SPI Cores: 2; Mounting Technology: Surface Mount; ComponentLink1Description: Manufacturer URL; ComponentLink1URL: http://www.latticesemi.com/en; ComponentLink2Description: Datasheet; ComponentLink2URL: http://www.latticesemi.com/~/media/Documents/DataSheets/iCE/DS1045.pdf; ComponentLink3Description: Package Specification; ComponentLink3URL: http://www.latticesemi.com/lit/docs/package/pkg.pdf
footprint LATC-WLCSP-25 (BGA, 25-Balls, Body 1.71x1.71mm, Pitch 0.35mm)
part A pins: A1 PIOT_A1_I2C1_SCL (io), A3 PIOT_A3HD_G2 (io), A4 PIOT_A4HD_G7 (io), A5 PIOT_A5_I2C2_SDA (io), B1 PIOT_B1_I2C1_SDA (io), B5 PIOT_B5HD_I2C2_SCL (io), C2 PIOT_C2 (io)
part B pins: B3 CRESETB (in) "Configuration Reset, active LOW. No internal pull-up resistor. Either actively driven externally or connect an 10K-ohm pull-up resistor to VCCIO_2.", C1 PIOB_C1_SPI1_MOSI (io), C3 CDONE (io) "Configuration Done. Includes a weak pull-up resistor to VCCIO_2.", C4 PIOB_C4_G3 (io), C5 PIOB_C5_SPI2_CSN (io), D1 PIOB_D1_SPI1_SCK (io), D2 PIOB_D2_SPI1_MISO (io), D3 PIOB_D3_G0 (io), D5 PIOB_D5_SPI2_MOSI_G1 (io), E1 PIOB_E1_SPI1_CSN (io), E3 PIOB_E3_G6 (io), E4 PIOB_E4_SPI2_SCK (io), E5 PIOB_E5_SPI2_MISO (io)
part C pins: A2 VCCIO_0 (power) "Power Supply for I/Os in Bank 0", B2 GND (power) "Ground", B4 VCC_12 (power) "Core Power Supply", D4 GND (power) "Ground", E2 VCCIO_2 (power) "Power Supply for I/Os in Bank 2"
part A text: BANK 0
part B text: BANK 2

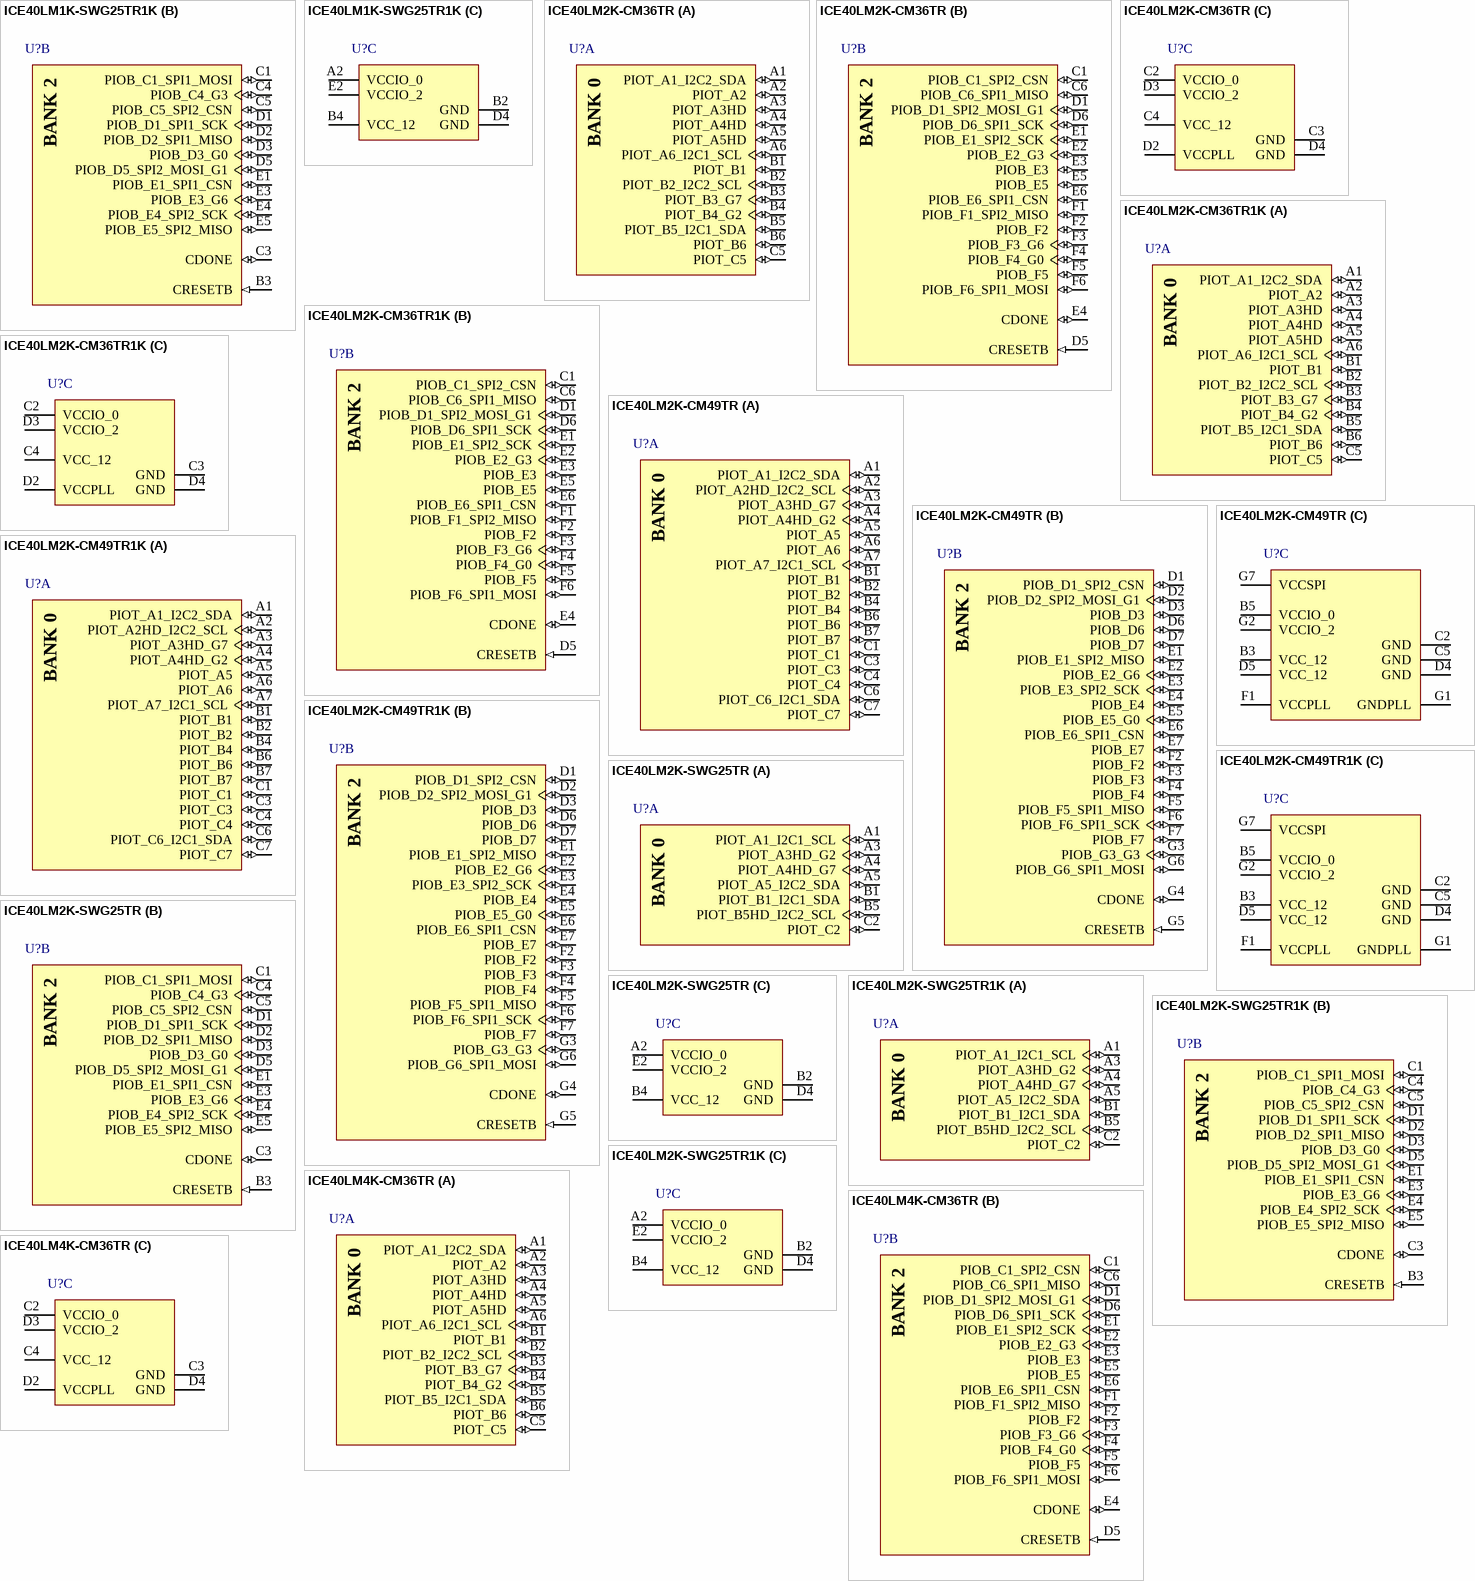
[diagram p4: symbols ICE40LM1K-SWG25TR1K to ICE40LM4K-CM36TR]

## ICE40LM1K-SWG25TR1K
designator U?
iCE40 LM1K Series FPGA Family, 1100 Logic Cells, 1.2 V Core, 64 K Embedded RAM Bits, 25-ball WLCSP, Pb-Free, Tape and Reel; Manufacturer: Lattice Semiconductor; PartNumber: ICE40LM1K-SWG25TR1K; 24mA Current Sink: 3; Embedded RAM Bits: 64K; High Frequency Strobe Generators: 1; I2C Cores: 2; Logic Cells: 1100; Supply Voltage: 1.2V; DatasheetVersion: Rev. 1.3; PackageVersion: Rev. 03.9, 02/2013; PackageReference: WLCSP-25; PackageDescription: 25-Ball Wafer-Level Chip Scale Package, Body 1.71 x 1.71 mm, Pitch 0.35 mm; Supplier 1: Digi-Key; Supplier Part Number 1: ICE40LM1K-SWG25TR1K-ND; Supplier 2: Mouser; Supplier Part Number 2: 842-E40LM1KSWG25TR1K; Low Power Strobe Generators: 1; Packing: Tape and Reel; Phase-Locked Loops: 1; RoHS: TRUE; SPI Cores: 2; Mounting Technology: Surface Mount; ComponentLink1Description: Manufacturer URL; ComponentLink1URL: http://www.latticesemi.com/en; ComponentLink2Description: Datasheet; ComponentLink2URL: http://www.latticesemi.com/~/media/Documents/DataSheets/iCE/DS1045.pdf; ComponentLink3Description: Package Specification; ComponentLink3URL: http://www.latticesemi.com/lit/docs/package/pkg.pdf
footprint LATC-WLCSP-25 (BGA, 25-Balls, Body 1.71x1.71mm, Pitch 0.35mm)
part A pins: A1 PIOT_A1_I2C1_SCL (io), A3 PIOT_A3HD_G2 (io), A4 PIOT_A4HD_G7 (io), A5 PIOT_A5_I2C2_SDA (io), B1 PIOT_B1_I2C1_SDA (io), B5 PIOT_B5HD_I2C2_SCL (io), C2 PIOT_C2 (io)
part B pins: B3 CRESETB (in) "Configuration Reset, active LOW. No internal pull-up resistor. Either actively driven externally or connect an 10K-ohm pull-up resistor to VCCIO_2.", C1 PIOB_C1_SPI1_MOSI (io), C3 CDONE (io) "Configuration Done. Includes a weak pull-up resistor to VCCIO_2.", C4 PIOB_C4_G3 (io), C5 PIOB_C5_SPI2_CSN (io), D1 PIOB_D1_SPI1_SCK (io), D2 PIOB_D2_SPI1_MISO (io), D3 PIOB_D3_G0 (io), D5 PIOB_D5_SPI2_MOSI_G1 (io), E1 PIOB_E1_SPI1_CSN (io), E3 PIOB_E3_G6 (io), E4 PIOB_E4_SPI2_SCK (io), E5 PIOB_E5_SPI2_MISO (io)
part C pins: A2 VCCIO_0 (power) "Power Supply for I/Os in Bank 0", B2 GND (power) "Ground", B4 VCC_12 (power) "Core Power Supply", D4 GND (power) "Ground", E2 VCCIO_2 (power) "Power Supply for I/Os in Bank 2"
part A text: BANK 0
part B text: BANK 2

## ICE40LM2K-CM36TR
designator U?
iCE40 LM2K Series FPGA Family, 2048 Logic Cells, 1.2 V Core, 80 K Embedded RAM Bits, 36-ball ucBGA, Pb-Free, Tape and Reel; Manufacturer: Lattice Semiconductor; PartNumber: ICE40LM2K-CM36TR; 24mA Current Sink: 3; Embedded RAM Bits: 80K; High Frequency Strobe Generators: 1; I2C Cores: 2; Logic Cells: 2048; Supply Voltage: 1.2V; DatasheetVersion: Rev. 1.3; PackageVersion: Rev. 03.9, 02/2013; PackageReference: ucBGA-36; PackageDescription: 36-Ball Ultra Chip Ball Grid Array, Body 2.5 x 2.5 mm, Pitch 0.4 mm; Low Power Strobe Generators: 1; Packing: Tape and Reel; Phase-Locked Loops: 1; RoHS: TRUE; SPI Cores: 2; Mounting Technology: Surface Mount; ComponentLink1Description: Manufacturer URL; ComponentLink1URL: http://www.latticesemi.com/en; ComponentLink2Description: Datasheet; ComponentLink2URL: http://www.latticesemi.com/~/media/Documents/DataSheets/iCE/DS1045.pdf; ComponentLink3Description: Package Specification; ComponentLink3URL: http://www.latticesemi.com/lit/docs/package/pkg.pdf
footprint LATC-ucBGA-36 (ucBGA, 36-Balls, Body 2.5x2.5mm, Pitch 0.4mm)
part A pins: A1 PIOT_A1_I2C2_SDA (io), A2 PIOT_A2 (io), A3 PIOT_A3HD (io), A4 PIOT_A4HD (io), A5 PIOT_A5HD (io), A6 PIOT_A6_I2C1_SCL (io), B1 PIOT_B1 (io), B2 PIOT_B2_I2C2_SCL (io), B3 PIOT_B3_G7 (io), B4 PIOT_B4_G2 (io), B5 PIOT_B5_I2C1_SDA (io), B6 PIOT_B6 (io), C5 PIOT_C5 (io)
part B pins: C1 PIOB_C1_SPI2_CSN (io), C6 PIOB_C6_SPI1_MISO (io), D1 PIOB_D1_SPI2_MOSI_G1 (io), D5 CRESETB (in) "Configuration Reset, active LOW. No internal pull-up resistor. Either actively driven externally or connect an 10K-ohm pull-up resistor to VCCIO_2.", D6 PIOB_D6_SPI1_SCK (io), E1 PIOB_E1_SPI2_SCK (io), E2 PIOB_E2_G3 (io), E3 PIOB_E3 (io), E4 CDONE (io) "Configuration Done. Includes a weak pull-up resistor to VCCIO_2.", E5 PIOB_E5 (io), E6 PIOB_E6_SPI1_CSN (io), F1 PIOB_F1_SPI2_MISO (io), F2 PIOB_F2 (io), F3 PIOB_F3_G6 (io), F4 PIOB_F4_G0 (io), F5 PIOB_F5 (io), F6 PIOB_F6_SPI1_MOSI (io)
part C pins: C2 VCCIO_0 (power) "Power Supply for I/Os in Bank 0", C3 GND (power) "Ground", C4 VCC_12 (power), D2 VCCPLL (power) "Power supply for PLL.", D3 VCCIO_2 (power) "Power Supply for I/Os in Bank 2", D4 GND (power) "Ground"
part A text: BANK 0
part B text: BANK 2

## ICE40LM2K-CM36TR1K
designator U?
iCE40 LM2K Series FPGA Family, 2048 Logic Cells, 1.2 V Core, 80 K Embedded RAM Bits, 36-ball ucBGA, Pb-Free, Tape and Reel; Manufacturer: Lattice Semiconductor; PartNumber: ICE40LM2K-CM36TR1K; 24mA Current Sink: 3; Embedded RAM Bits: 80K; High Frequency Strobe Generators: 1; I2C Cores: 2; Logic Cells: 2048; Supply Voltage: 1.2V; DatasheetVersion: Rev. 1.3; PackageVersion: Rev. 03.9, 02/2013; PackageReference: ucBGA-36; PackageDescription: 36-Ball Ultra Chip Ball Grid Array, Body 2.5 x 2.5 mm, Pitch 0.4 mm; Low Power Strobe Generators: 1; Packing: Tape and Reel; Phase-Locked Loops: 1; RoHS: TRUE; SPI Cores: 2; Mounting Technology: Surface Mount; ComponentLink1Description: Manufacturer URL; ComponentLink1URL: http://www.latticesemi.com/en; ComponentLink2Description: Datasheet; ComponentLink2URL: http://www.latticesemi.com/~/media/Documents/DataSheets/iCE/DS1045.pdf; ComponentLink3Description: Package Specification; ComponentLink3URL: http://www.latticesemi.com/lit/docs/package/pkg.pdf
footprint LATC-ucBGA-36 (ucBGA, 36-Balls, Body 2.5x2.5mm, Pitch 0.4mm)
part A pins: A1 PIOT_A1_I2C2_SDA (io), A2 PIOT_A2 (io), A3 PIOT_A3HD (io), A4 PIOT_A4HD (io), A5 PIOT_A5HD (io), A6 PIOT_A6_I2C1_SCL (io), B1 PIOT_B1 (io), B2 PIOT_B2_I2C2_SCL (io), B3 PIOT_B3_G7 (io), B4 PIOT_B4_G2 (io), B5 PIOT_B5_I2C1_SDA (io), B6 PIOT_B6 (io), C5 PIOT_C5 (io)
part B pins: C1 PIOB_C1_SPI2_CSN (io), C6 PIOB_C6_SPI1_MISO (io), D1 PIOB_D1_SPI2_MOSI_G1 (io), D5 CRESETB (in) "Configuration Reset, active LOW. No internal pull-up resistor. Either actively driven externally or connect an 10K-ohm pull-up resistor to VCCIO_2.", D6 PIOB_D6_SPI1_SCK (io), E1 PIOB_E1_SPI2_SCK (io), E2 PIOB_E2_G3 (io), E3 PIOB_E3 (io), E4 CDONE (io) "Configuration Done. Includes a weak pull-up resistor to VCCIO_2.", E5 PIOB_E5 (io), E6 PIOB_E6_SPI1_CSN (io), F1 PIOB_F1_SPI2_MISO (io), F2 PIOB_F2 (io), F3 PIOB_F3_G6 (io), F4 PIOB_F4_G0 (io), F5 PIOB_F5 (io), F6 PIOB_F6_SPI1_MOSI (io)
part C pins: C2 VCCIO_0 (power) "Power Supply for I/Os in Bank 0", C3 GND (power) "Ground", C4 VCC_12 (power), D2 VCCPLL (power) "Power supply for PLL.", D3 VCCIO_2 (power) "Power Supply for I/Os in Bank 2", D4 GND (power) "Ground"
part A text: BANK 0
part B text: BANK 2

## ICE40LM2K-CM49TR
designator U?
iCE40 LM2K Series FPGA Family, 2048 Logic Cells, 1.2 V Core, 80 K Embedded RAM Bits, 49-ball ucBGA, Pb-Free, Tape and Reel; Manufacturer: Lattice Semiconductor; PartNumber: ICE40LM2K-CM49TR; 24mA Current Sink: 3; Embedded RAM Bits: 80K; High Frequency Strobe Generators: 1; I2C Cores: 2; Logic Cells: 2048; Supply Voltage: 1.2V; DatasheetVersion: Rev. 1.3; PackageVersion: Rev. 03.9, 02/2013; PackageReference: ucBGA-49; PackageDescription: 49-Ball Ultra Chip Ball Grid Array, Body 3 x 3 mm, Pitch 0.4 mm; Low Power Strobe Generators: 1; Packing: Tape and Reel; Phase-Locked Loops: 1; RoHS: TRUE; SPI Cores: 2; Mounting Technology: Surface Mount; ComponentLink1Description: Manufacturer URL; ComponentLink1URL: http://www.latticesemi.com/en; ComponentLink2Description: Datasheet; ComponentLink2URL: http://www.latticesemi.com/~/media/Documents/DataSheets/iCE/DS1045.pdf; ComponentLink3Description: Package Specification; ComponentLink3URL: http://www.latticesemi.com/lit/docs/package/pkg.pdf
footprint LATC-ucBGA-49 (BGA, 49-Balls, Body 3x3mm, Pitch 0.4mm)
part A pins: A1 PIOT_A1_I2C2_SDA (io), A2 PIOT_A2HD_I2C2_SCL (io), A3 PIOT_A3HD_G7 (io), A4 PIOT_A4HD_G2 (io), A5 PIOT_A5 (io), A6 PIOT_A6 (io), A7 PIOT_A7_I2C1_SCL (io), B1 PIOT_B1 (io), B2 PIOT_B2 (io), B4 PIOT_B4 (io), B6 PIOT_B6 (io), B7 PIOT_B7 (io), C1 PIOT_C1 (io), C3 PIOT_C3 (io), C4 PIOT_C4 (io), C6 PIOT_C6_I2C1_SDA (io), C7 PIOT_C7 (io)
part B pins: D1 PIOB_D1_SPI2_CSN (io), D2 PIOB_D2_SPI2_MOSI_G1 (io), D3 PIOB_D3 (io), D6 PIOB_D6 (io), D7 PIOB_D7 (io), E1 PIOB_E1_SPI2_MISO (io), E2 PIOB_E2_G6 (io), E3 PIOB_E3_SPI2_SCK (io), E4 PIOB_E4 (io), E5 PIOB_E5_G0 (io), E6 PIOB_E6_SPI1_CSN (io), E7 PIOB_E7 (io), F2 PIOB_F2 (io), F3 PIOB_F3 (io), F4 PIOB_F4 (io), F5 PIOB_F5_SPI1_MISO (io), F6 PIOB_F6_SPI1_SCK (io), F7 PIOB_F7 (io), G3 PIOB_G3_G3 (io), G4 CDONE (io) "Configuration Done. Includes a weak pull-up resistor to VCCIO_2.", G5 CRESETB (in) "Configuration Reset, active LOW. No internal pull-up resistor. Either actively driven externally or connect an 10K-ohm pull-up resistor to VCCIO_2.", G6 PIOB_G6_SPI1_MOSI (io)
part C pins: B3 VCC_12 (power), B5 VCCIO_0 (power) "Power Supply for I/Os in Bank 0", C2 GND (power) "Ground", C5 GND (power) "Ground", D4 GND (power) "Ground", D5 VCC_12 (power), F1 VCCPLL (power) "Power supply for PLL.", G1 GNDPLL (power) "Ground", G2 VCCIO_2 (power) "Power Supply for I/Os in Bank 2", G7 VCCSPI (power) "Power supply for SPI1 ports."
part A text: BANK 0
part B text: BANK 2

## ICE40LM2K-CM49TR1K
designator U?
iCE40 LM2K Series FPGA Family, 2048 Logic Cells, 1.2 V Core, 80 K Embedded RAM Bits, 49-ball ucBGA, Pb-Free, Tape and Reel; Manufacturer: Lattice Semiconductor; PartNumber: ICE40LM2K-CM49TR1K; 24mA Current Sink: 3; Embedded RAM Bits: 80K; High Frequency Strobe Generators: 1; I2C Cores: 2; Logic Cells: 2048; Supply Voltage: 1.2V; DatasheetVersion: Rev. 1.3; PackageVersion: Rev. 03.9, 02/2013; PackageReference: ucBGA-49; PackageDescription: 49-Ball Ultra Chip Ball Grid Array, Body 3 x 3 mm, Pitch 0.4 mm; Low Power Strobe Generators: 1; Packing: Tape and Reel; Phase-Locked Loops: 1; RoHS: TRUE; SPI Cores: 2; Mounting Technology: Surface Mount; ComponentLink1Description: Manufacturer URL; ComponentLink1URL: http://www.latticesemi.com/en; ComponentLink2Description: Datasheet; ComponentLink2URL: http://www.latticesemi.com/~/media/Documents/DataSheets/iCE/DS1045.pdf; ComponentLink3Description: Package Specification; ComponentLink3URL: http://www.latticesemi.com/lit/docs/package/pkg.pdf
footprint LATC-ucBGA-49 (BGA, 49-Balls, Body 3x3mm, Pitch 0.4mm)
part A pins: A1 PIOT_A1_I2C2_SDA (io), A2 PIOT_A2HD_I2C2_SCL (io), A3 PIOT_A3HD_G7 (io), A4 PIOT_A4HD_G2 (io), A5 PIOT_A5 (io), A6 PIOT_A6 (io), A7 PIOT_A7_I2C1_SCL (io), B1 PIOT_B1 (io), B2 PIOT_B2 (io), B4 PIOT_B4 (io), B6 PIOT_B6 (io), B7 PIOT_B7 (io), C1 PIOT_C1 (io), C3 PIOT_C3 (io), C4 PIOT_C4 (io), C6 PIOT_C6_I2C1_SDA (io), C7 PIOT_C7 (io)
part B pins: D1 PIOB_D1_SPI2_CSN (io), D2 PIOB_D2_SPI2_MOSI_G1 (io), D3 PIOB_D3 (io), D6 PIOB_D6 (io), D7 PIOB_D7 (io), E1 PIOB_E1_SPI2_MISO (io), E2 PIOB_E2_G6 (io), E3 PIOB_E3_SPI2_SCK (io), E4 PIOB_E4 (io), E5 PIOB_E5_G0 (io), E6 PIOB_E6_SPI1_CSN (io), E7 PIOB_E7 (io), F2 PIOB_F2 (io), F3 PIOB_F3 (io), F4 PIOB_F4 (io), F5 PIOB_F5_SPI1_MISO (io), F6 PIOB_F6_SPI1_SCK (io), F7 PIOB_F7 (io), G3 PIOB_G3_G3 (io), G4 CDONE (io) "Configuration Done. Includes a weak pull-up resistor to VCCIO_2.", G5 CRESETB (in) "Configuration Reset, active LOW. No internal pull-up resistor. Either actively driven externally or connect an 10K-ohm pull-up resistor to VCCIO_2.", G6 PIOB_G6_SPI1_MOSI (io)
part C pins: B3 VCC_12 (power), B5 VCCIO_0 (power) "Power Supply for I/Os in Bank 0", C2 GND (power) "Ground", C5 GND (power) "Ground", D4 GND (power) "Ground", D5 VCC_12 (power), F1 VCCPLL (power) "Power supply for PLL.", G1 GNDPLL (power) "Ground", G2 VCCIO_2 (power) "Power Supply for I/Os in Bank 2", G7 VCCSPI (power) "Power supply for SPI1 ports."
part A text: BANK 0
part B text: BANK 2

## ICE40LM2K-SWG25TR
designator U?
iCE40 LM2K Series FPGA Family, 2048 Logic Cells, 1.2 V Core, 80 K Embedded RAM Bits, 25-ball WLCSP, Pb-Free, Tape and Reel; Manufacturer: Lattice Semiconductor; PartNumber: ICE40LM2K-SWG25TR; 24mA Current Sink: 3; Embedded RAM Bits: 80K; High Frequency Strobe Generators: 1; I2C Cores: 2; Logic Cells: 2048; Supply Voltage: 1.2V; DatasheetVersion: Rev. 1.3; PackageVersion: Rev. 03.9, 02/2013; PackageReference: WLCSP-25; PackageDescription: 25-Ball Wafer-Level Chip Scale Package, Body 1.71 x 1.71 mm, Pitch 0.35 mm; Supplier 1: Digi-Key; Supplier Part Number 1: ICE40LM2K-SWG25TR-ND; Supplier 2: Mouser; Supplier Part Number 2: 842-ICE40LM2KSWG25TR; Low Power Strobe Generators: 1; Packing: Tape and Reel; Phase-Locked Loops: 1; RoHS: TRUE; SPI Cores: 2; Mounting Technology: Surface Mount; ComponentLink1Description: Manufacturer URL; ComponentLink1URL: http://www.latticesemi.com/en; ComponentLink2Description: Datasheet; ComponentLink2URL: http://www.latticesemi.com/~/media/Documents/DataSheets/iCE/DS1045.pdf; ComponentLink3Description: Package Specification; ComponentLink3URL: http://www.latticesemi.com/lit/docs/package/pkg.pdf
footprint LATC-WLCSP-25 (BGA, 25-Balls, Body 1.71x1.71mm, Pitch 0.35mm)
part A pins: A1 PIOT_A1_I2C1_SCL (io), A3 PIOT_A3HD_G2 (io), A4 PIOT_A4HD_G7 (io), A5 PIOT_A5_I2C2_SDA (io), B1 PIOT_B1_I2C1_SDA (io), B5 PIOT_B5HD_I2C2_SCL (io), C2 PIOT_C2 (io)
part B pins: B3 CRESETB (in) "Configuration Reset, active LOW. No internal pull-up resistor. Either actively driven externally or connect an 10K-ohm pull-up resistor to VCCIO_2.", C1 PIOB_C1_SPI1_MOSI (io), C3 CDONE (io) "Configuration Done. Includes a weak pull-up resistor to VCCIO_2.", C4 PIOB_C4_G3 (io), C5 PIOB_C5_SPI2_CSN (io), D1 PIOB_D1_SPI1_SCK (io), D2 PIOB_D2_SPI1_MISO (io), D3 PIOB_D3_G0 (io), D5 PIOB_D5_SPI2_MOSI_G1 (io), E1 PIOB_E1_SPI1_CSN (io), E3 PIOB_E3_G6 (io), E4 PIOB_E4_SPI2_SCK (io), E5 PIOB_E5_SPI2_MISO (io)
part C pins: A2 VCCIO_0 (power) "Power Supply for I/Os in Bank 0", B2 GND (power) "Ground", B4 VCC_12 (power) "Core Power Supply", D4 GND (power) "Ground", E2 VCCIO_2 (power) "Power Supply for I/Os in Bank 2"
part A text: BANK 0
part B text: BANK 2

## ICE40LM2K-SWG25TR1K
designator U?
iCE40 LM2K Series FPGA Family, 2048 Logic Cells, 1.2 V Core, 80 K Embedded RAM Bits, 25-ball WLCSP, Pb-Free, Tape and Reel; Manufacturer: Lattice Semiconductor; PartNumber: ICE40LM2K-SWG25TR1K; 24mA Current Sink: 3; Embedded RAM Bits: 80K; High Frequency Strobe Generators: 1; I2C Cores: 2; Logic Cells: 2048; Supply Voltage: 1.2V; DatasheetVersion: Rev. 1.3; PackageVersion: Rev. 03.9, 02/2013; PackageReference: WLCSP-25; PackageDescription: 25-Ball Wafer-Level Chip Scale Package, Body 1.71 x 1.71 mm, Pitch 0.35 mm; Supplier 1: Digi-Key; Supplier Part Number 1: ICE40LM2K-SWG25TR1K-ND; Supplier 2: Mouser; Supplier Part Number 2: 842-E40LM2KSWG25TR1K; Low Power Strobe Generators: 1; Packing: Tape and Reel; Phase-Locked Loops: 1; RoHS: TRUE; SPI Cores: 2; Mounting Technology: Surface Mount; ComponentLink1Description: Manufacturer URL; ComponentLink1URL: http://www.latticesemi.com/en; ComponentLink2Description: Datasheet; ComponentLink2URL: http://www.latticesemi.com/~/media/Documents/DataSheets/iCE/DS1045.pdf; ComponentLink3Description: Package Specification; ComponentLink3URL: http://www.latticesemi.com/lit/docs/package/pkg.pdf
footprint LATC-WLCSP-25 (BGA, 25-Balls, Body 1.71x1.71mm, Pitch 0.35mm)
part A pins: A1 PIOT_A1_I2C1_SCL (io), A3 PIOT_A3HD_G2 (io), A4 PIOT_A4HD_G7 (io), A5 PIOT_A5_I2C2_SDA (io), B1 PIOT_B1_I2C1_SDA (io), B5 PIOT_B5HD_I2C2_SCL (io), C2 PIOT_C2 (io)
part B pins: B3 CRESETB (in) "Configuration Reset, active LOW. No internal pull-up resistor. Either actively driven externally or connect an 10K-ohm pull-up resistor to VCCIO_2.", C1 PIOB_C1_SPI1_MOSI (io), C3 CDONE (io) "Configuration Done. Includes a weak pull-up resistor to VCCIO_2.", C4 PIOB_C4_G3 (io), C5 PIOB_C5_SPI2_CSN (io), D1 PIOB_D1_SPI1_SCK (io), D2 PIOB_D2_SPI1_MISO (io), D3 PIOB_D3_G0 (io), D5 PIOB_D5_SPI2_MOSI_G1 (io), E1 PIOB_E1_SPI1_CSN (io), E3 PIOB_E3_G6 (io), E4 PIOB_E4_SPI2_SCK (io), E5 PIOB_E5_SPI2_MISO (io)
part C pins: A2 VCCIO_0 (power) "Power Supply for I/Os in Bank 0", B2 GND (power) "Ground", B4 VCC_12 (power) "Core Power Supply", D4 GND (power) "Ground", E2 VCCIO_2 (power) "Power Supply for I/Os in Bank 2"
part A text: BANK 0
part B text: BANK 2